# Altium footprint library MATCN.PcbLib: 32 footprints (part 2 of 2)
Each footprint in its own frame and in the unit in brackets; x right, y up, seen from the top. Pads: shape width x height; smd on the part's side, far side on the other; paste and mask are expansions set on the pad; w line width, h text height; cw(c..) or ccw(c..) is an arc to the next point about the centre after c.
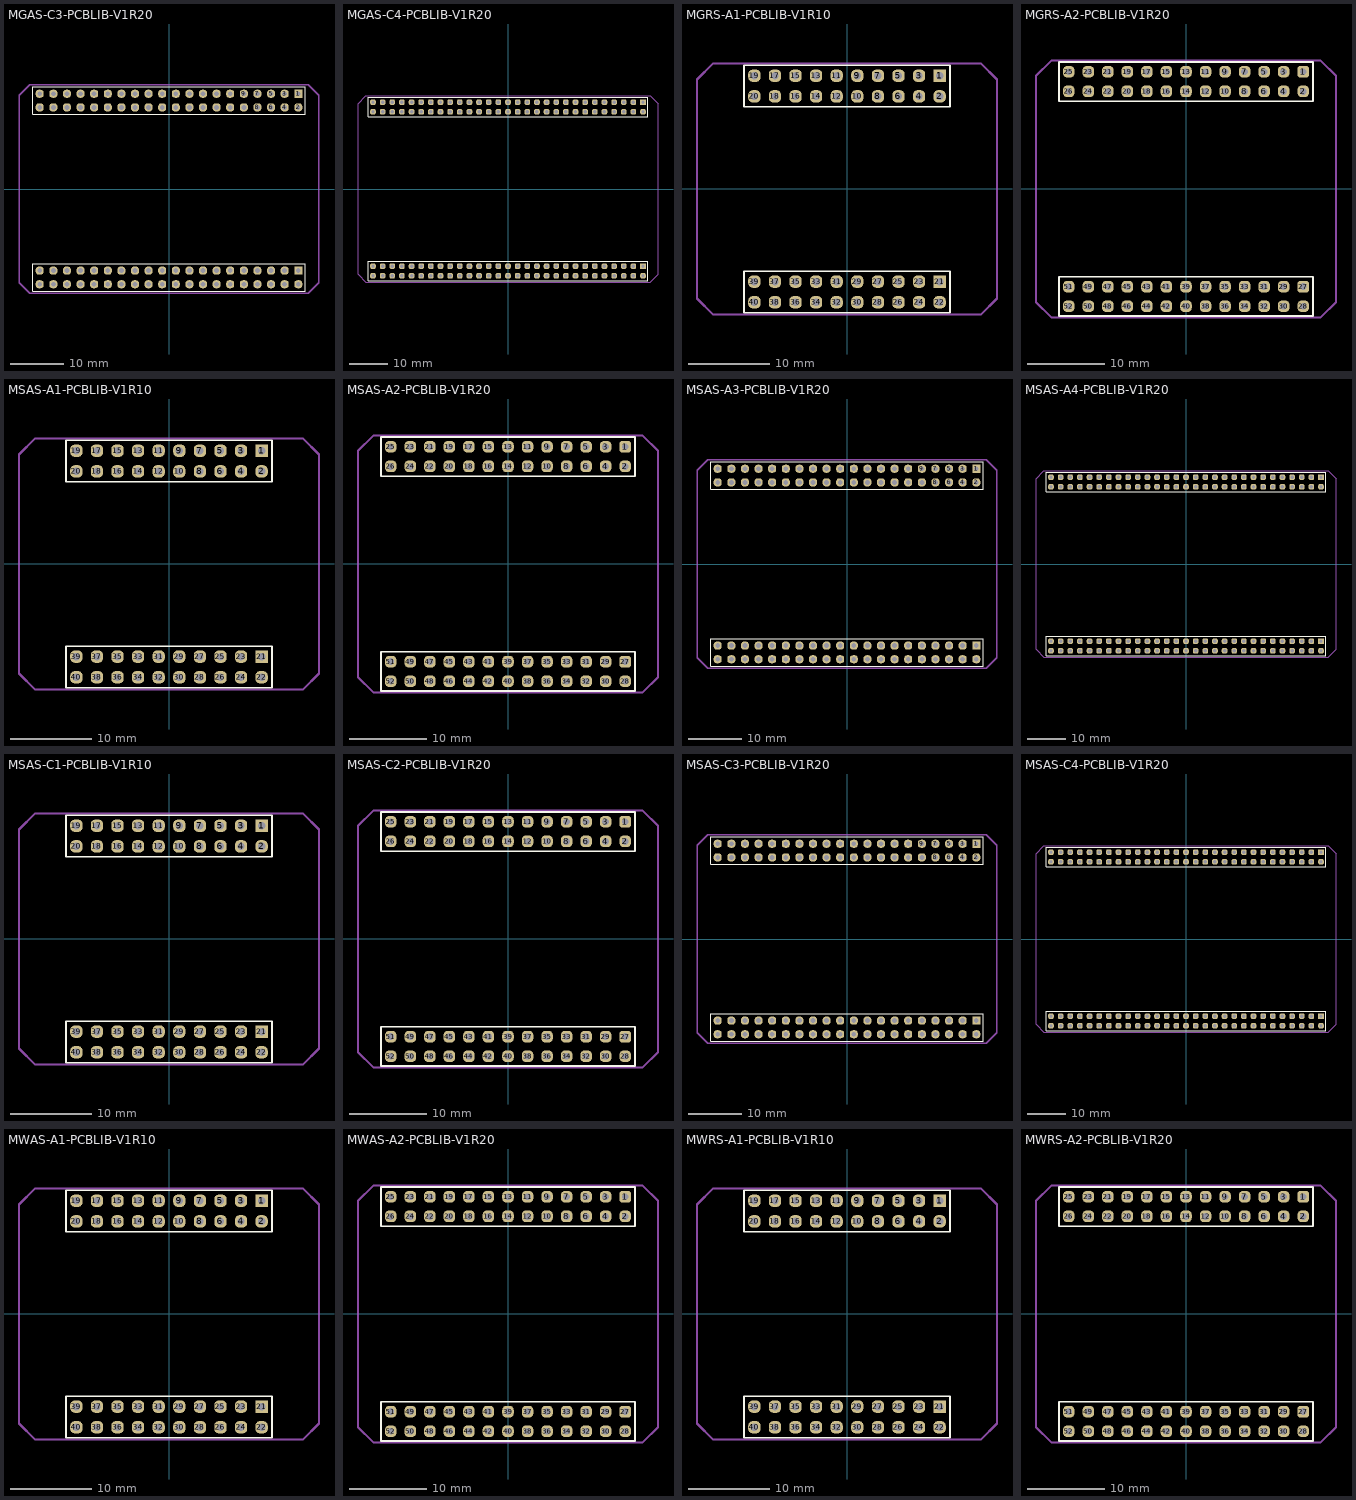
[diagram p1: the footprints below, top view; thin cyan lines are the x and y axes]

## MGAS-C3-PCBLIB-V1R20 [mm]
pads (80):
  rect 1.5x1.5 hole 0.9: 1(24.13,17.78) 41(24.13,-15.24)
  rrect80% 1.5x1.5 hole 0.9: 2(24.13,15.24) 3(21.59,17.78) 4(21.59,15.24) 5(19.05,17.78) 6(19.05,15.24) 7(16.51,17.78) 8(16.51,15.24) 9(13.97,17.78) 10(13.97,15.24) 11(11.43,17.78) 12(11.43,15.24) 13(8.89,17.78) 14(8.89,15.24) 15(6.35,17.78) 16(6.35,15.24) 17(3.81,17.78) 18(3.81,15.24) 19(1.27,17.78) 20(1.27,15.24) 21(-1.27,17.78) 22(-1.27,15.24) 23(-3.81,17.78) 24(-3.81,15.24) 25(-6.35,17.78) 26(-6.35,15.24) 27(-8.89,17.78) 28(-8.89,15.24) 29(-11.43,17.78) 30(-11.43,15.24) 31(-13.97,17.78) 32(-13.97,15.24) 33(-16.51,17.78) 34(-16.51,15.24) 35(-19.05,17.78) 36(-19.05,15.24) 37(-21.59,17.78) 38(-21.59,15.24) 39(-24.13,17.78) 40(-24.13,15.24) 42(24.13,-17.78) 43(21.59,-15.24) 44(21.59,-17.78) 45(19.05,-15.24) 46(19.05,-17.78) 47(16.51,-15.24) 48(16.51,-17.78) 49(13.97,-15.24) 50(13.97,-17.78) 51(11.43,-15.24) 52(11.43,-17.78) 53(8.89,-15.24) 54(8.89,-17.78) 55(6.35,-15.24) 56(6.35,-17.78) 57(3.81,-15.24) 58(3.81,-17.78) 59(1.27,-15.24) 60(1.27,-17.78) 61(-1.27,-15.24) 62(-1.27,-17.78) 63(-3.81,-15.24) 64(-3.81,-17.78) 65(-6.35,-15.24) 66(-6.35,-17.78) 67(-8.89,-15.24) 68(-8.89,-17.78) 69(-11.43,-15.24) 70(-11.43,-17.78) 71(-13.97,-15.24) 72(-13.97,-17.78) 73(-16.51,-15.24) 74(-16.51,-17.78) 75(-19.05,-15.24) 76(-19.05,-17.78) 77(-21.59,-15.24) 78(-21.59,-17.78) 79(-24.13,-15.24) 80(-24.13,-17.78)
Top Overlay:
  lines w0.2: -25.4,-19.05 25.4,-19.05 25.4,-13.97 -25.4,-13.97 -25.4,-19.05 ; -25.4,13.97 25.4,13.97 25.4,19.05 -25.4,19.05 -25.4,13.97
Mechanical 1:
  lines w0.254: -28,-17.5 -28,17.5 -26,19.5 26,19.5 28,17.5 28,-17.5 26,-19.5 -26,-19.5 -28,-17.5

## MGAS-C4-PCBLIB-V1R20 [mm]
pads (116):
  rect 1.5x1.5 hole 0.9: 1(35.56,22.86) 59(35.56,-20.32)
  rrect70% 1.5x1.5 hole 0.9: 2(35.56,20.32) 3(33.02,22.86) 4(33.02,20.32) 5(30.48,22.86) 6(30.48,20.32) 7(27.94,22.86) 8(27.94,20.32) 9(25.4,22.86) 10(25.4,20.32) 11(22.86,22.86) 12(22.86,20.32) 13(20.32,22.86) 14(20.32,20.32) 15(17.78,22.86) 16(17.78,20.32) 17(15.24,22.86) 18(15.24,20.32) 19(12.7,22.86) 20(12.7,20.32) 21(10.16,22.86) 22(10.16,20.32) 23(7.62,22.86) 24(7.62,20.32) 25(5.08,22.86) 26(5.08,20.32) 27(2.54,22.86) 28(2.54,20.32) 29(0,22.86) 30(0,20.32) 31(-2.54,22.86) 32(-2.54,20.32) 33(-5.08,22.86) 34(-5.08,20.32) 35(-7.62,22.86) 36(-7.62,20.32) 37(-10.16,22.86) 38(-10.16,20.32) 39(-12.7,22.86) 40(-12.7,20.32) 41(-15.24,22.86) 42(-15.24,20.32) 43(-17.78,22.86) 44(-17.78,20.32) 45(-20.32,22.86) 46(-20.32,20.32) 47(-22.86,22.86) 48(-22.86,20.32) 49(-25.4,22.86) 50(-25.4,20.32) 51(-27.94,22.86) 52(-27.94,20.32) 53(-30.48,22.86) 54(-30.48,20.32) 55(-33.02,22.86) 56(-33.02,20.32) 57(-35.56,22.86) 58(-35.56,20.32) 60(35.56,-22.86) 61(33.02,-20.32) 62(33.02,-22.86) 63(30.48,-20.32) 64(30.48,-22.86) 65(27.94,-20.32) 66(27.94,-22.86) 67(25.4,-20.32) 68(25.4,-22.86) 69(22.86,-20.32) 70(22.86,-22.86) 71(20.32,-20.32) 72(20.32,-22.86) 73(17.78,-20.32) 74(17.78,-22.86) 75(15.24,-20.32) 76(15.24,-22.86) 77(12.7,-20.32) 78(12.7,-22.86) 79(10.16,-20.32) 80(10.16,-22.86) 81(7.62,-20.32) 82(7.62,-22.86) 83(5.08,-20.32) 84(5.08,-22.86) 85(2.54,-20.32) 86(2.54,-22.86) 87(0,-20.32) 88(0,-22.86) 89(-2.54,-20.32) 90(-2.54,-22.86) 91(-5.08,-20.32) 92(-5.08,-22.86) 93(-7.62,-20.32) 94(-7.62,-22.86) 95(-10.16,-20.32) 96(-10.16,-22.86) 97(-12.7,-20.32) 98(-12.7,-22.86) 99(-15.24,-20.32) 100(-15.24,-22.86) 101(-17.78,-20.32) 102(-17.78,-22.86) 103(-20.32,-20.32) 104(-20.32,-22.86) 105(-22.86,-20.32) 106(-22.86,-22.86) 107(-25.4,-20.32) 108(-25.4,-22.86) 109(-27.94,-20.32) 110(-27.94,-22.86) 111(-30.48,-20.32) 112(-30.48,-22.86) 113(-33.02,-20.32) 114(-33.02,-22.86) 115(-35.56,-20.32) 116(-35.56,-22.86)
Top Overlay:
  lines w0.2: -36.83,-24.13 -36.83,-19.05 36.83,-19.05 36.83,-24.13 -36.83,-24.13 ; -36.83,19.05 -36.83,24.13 36.83,24.13 36.83,19.05 -36.83,19.05
Mechanical 1:
  lines w0.254: -39.5,-22.5 -37.5,-24.5 37.5,-24.5 39.5,-22.5 39.5,22.5 37.5,24.5 -37.5,24.5 -39.5,22.5 -39.5,-22.5

## MGRS-A1-PCBLIB-V1R10 [mm]
pads (40):
  rect 1.5x1.5 hole 0.9: 1(11.43,13.97) 21(11.43,-11.43)
  rrect70% 1.5x1.5 hole 0.9: 2(11.43,11.43) 3(8.89,13.97) 4(8.89,11.43) 5(6.35,13.97) 6(6.35,11.43) 7(3.81,13.97) 8(3.81,11.43) 9(1.27,13.97) 10(1.27,11.43) 11(-1.27,13.97) 12(-1.27,11.43) 13(-3.81,13.97) 14(-3.81,11.43) 15(-6.35,13.97) 16(-6.35,11.43) 17(-8.89,13.97) 18(-8.89,11.43) 19(-11.43,13.97) 20(-11.43,11.43) 22(11.43,-13.97) 23(8.89,-11.43) 24(8.89,-13.97) 25(6.35,-11.43) 26(6.35,-13.97) 27(3.81,-11.43) 28(3.81,-13.97) 29(1.27,-11.43) 30(1.27,-13.97) 31(-1.27,-11.43) 32(-1.27,-13.97) 33(-3.81,-11.43) 34(-3.81,-13.97) 35(-6.35,-11.43) 36(-6.35,-13.97) 37(-8.89,-11.43) 38(-8.89,-13.97) 39(-11.43,-11.43) 40(-11.43,-13.97)
Top Overlay:
  lines w0.2: -12.7,-15.24 -12.7,-10.16 12.7,-10.16 12.7,-15.24 -12.7,-15.24 ; -12.7,10.16 -12.7,15.24 12.7,15.24 12.7,10.16 -12.7,10.16
Mechanical 1:
  lines w0.254: -18.5,-13.5 -16.5,-15.5 16.5,-15.5 18.5,-13.5 18.5,13.5 16.5,15.5 -16.5,15.5 -18.5,13.5 -18.5,-13.5
3D body: height 8.6, standoff -3, extent -12.7,10.16 12.7,15.24
3D body: height 8.6, standoff -3, extent -12.7,-15.24 12.7,-10.16

## MGRS-A2-PCBLIB-V1R20 [mm]
pads (52):
  rrect50% 1.5x1.5 hole 0.9: 1(15.24,15.24) 27(15.24,-12.7)
  rrect70% 1.5x1.5 hole 0.9: 2(15.24,12.7) 3(12.7,15.24) 4(12.7,12.7) 5(10.16,15.24) 6(10.16,12.7) 7(7.62,15.24) 8(7.62,12.7) 9(5.08,15.24) 10(5.08,12.7) 11(2.54,15.24) 12(2.54,12.7) 13(0,15.24) 14(0,12.7) 15(-2.54,15.24) 16(-2.54,12.7) 17(-5.08,15.24) 18(-5.08,12.7) 19(-7.62,15.24) 20(-7.62,12.7) 21(-10.16,15.24) 22(-10.16,12.7) 23(-12.7,15.24) 24(-12.7,12.7) 25(-15.24,15.24) 26(-15.24,12.7) 28(15.24,-15.24) 29(12.7,-12.7) 30(12.7,-15.24) 31(10.16,-12.7) 32(10.16,-15.24) 33(7.62,-12.7) 34(7.62,-15.24) 35(5.08,-12.7) 36(5.08,-15.24) 37(2.54,-12.7) 38(2.54,-15.24) 39(0,-12.7) 40(0,-15.24) 41(-2.54,-12.7) 42(-2.54,-15.24) 43(-5.08,-12.7) 44(-5.08,-15.24) 45(-7.62,-12.7) 46(-7.62,-15.24) 47(-10.16,-12.7) 48(-10.16,-15.24) 49(-12.7,-12.7) 50(-12.7,-15.24) 51(-15.24,-12.7) 52(-15.24,-15.24)
Top Overlay:
  lines w0.2: -16.51,-16.51 -16.51,-11.43 16.51,-11.43 16.51,-16.51 -16.51,-16.51 ; -16.51,11.43 -16.51,16.51 16.51,16.51 16.51,11.43 -16.51,11.43
Mechanical 1:
  lines w0.254: -19.5,-14.7 -19.5,14.7 -17.5,16.7 17.5,16.7 19.5,14.7 19.5,-14.7 17.5,-16.7 -17.5,-16.7 -19.5,-14.7
3D body: height 8.6, standoff -3, extent -12.8,10.26 12.6,15.34
3D body: height 8.6, standoff -3, extent -12.8,-15.14 12.6,-10.06
3D body: height 8.6, standoff -3, extent -16.51,-16.51 16.51,-11.43
3D body: height 8.6, standoff -3, extent -16.51,11.43 16.51,16.51

## MSAS-A1-PCBLIB-V1R10 [mm]
pads (40):
  rect 1.5x1.5 hole 0.9: 1(11.43,13.97) 21(11.43,-11.43)
  rrect70% 1.5x1.5 hole 0.9: 2(11.43,11.43) 3(8.89,13.97) 4(8.89,11.43) 5(6.35,13.97) 6(6.35,11.43) 7(3.81,13.97) 8(3.81,11.43) 9(1.27,13.97) 10(1.27,11.43) 11(-1.27,13.97) 12(-1.27,11.43) 13(-3.81,13.97) 14(-3.81,11.43) 15(-6.35,13.97) 16(-6.35,11.43) 17(-8.89,13.97) 18(-8.89,11.43) 19(-11.43,13.97) 20(-11.43,11.43) 22(11.43,-13.97) 23(8.89,-11.43) 24(8.89,-13.97) 25(6.35,-11.43) 26(6.35,-13.97) 27(3.81,-11.43) 28(3.81,-13.97) 29(1.27,-11.43) 30(1.27,-13.97) 31(-1.27,-11.43) 32(-1.27,-13.97) 33(-3.81,-11.43) 34(-3.81,-13.97) 35(-6.35,-11.43) 36(-6.35,-13.97) 37(-8.89,-11.43) 38(-8.89,-13.97) 39(-11.43,-11.43) 40(-11.43,-13.97)
Top Overlay:
  lines w0.2: -12.7,-15.24 -12.7,-10.16 12.7,-10.16 12.7,-15.24 -12.7,-15.24 ; -12.7,10.16 -12.7,15.24 12.7,15.24 12.7,10.16 -12.7,10.16
Mechanical 1:
  lines w0.254: -18.5,-13.5 -16.5,-15.5 16.5,-15.5 18.5,-13.5 18.5,13.5 16.5,15.5 -16.5,15.5 -18.5,13.5 -18.5,-13.5
3D body: height 8.6, standoff -3, extent -12.7,10.16 12.7,15.24
3D body: height 8.6, standoff -3, extent -12.7,-15.24 12.7,-10.16

## MSAS-A2-PCBLIB-V1R20 [mm]
pads (52):
  rrect50% 1.5x1.5 hole 0.9: 1(15.24,15.24) 27(15.24,-12.7)
  rrect70% 1.5x1.5 hole 0.9: 2(15.24,12.7) 3(12.7,15.24) 4(12.7,12.7) 5(10.16,15.24) 6(10.16,12.7) 7(7.62,15.24) 8(7.62,12.7) 9(5.08,15.24) 10(5.08,12.7) 11(2.54,15.24) 12(2.54,12.7) 13(0,15.24) 14(0,12.7) 15(-2.54,15.24) 16(-2.54,12.7) 17(-5.08,15.24) 18(-5.08,12.7) 19(-7.62,15.24) 20(-7.62,12.7) 21(-10.16,15.24) 22(-10.16,12.7) 23(-12.7,15.24) 24(-12.7,12.7) 25(-15.24,15.24) 26(-15.24,12.7) 28(15.24,-15.24) 29(12.7,-12.7) 30(12.7,-15.24) 31(10.16,-12.7) 32(10.16,-15.24) 33(7.62,-12.7) 34(7.62,-15.24) 35(5.08,-12.7) 36(5.08,-15.24) 37(2.54,-12.7) 38(2.54,-15.24) 39(0,-12.7) 40(0,-15.24) 41(-2.54,-12.7) 42(-2.54,-15.24) 43(-5.08,-12.7) 44(-5.08,-15.24) 45(-7.62,-12.7) 46(-7.62,-15.24) 47(-10.16,-12.7) 48(-10.16,-15.24) 49(-12.7,-12.7) 50(-12.7,-15.24) 51(-15.24,-12.7) 52(-15.24,-15.24)
Top Overlay:
  lines w0.2: -16.51,-16.51 -16.51,-11.43 16.51,-11.43 16.51,-16.51 -16.51,-16.51 ; -16.51,11.43 -16.51,16.51 16.51,16.51 16.51,11.43 -16.51,11.43
Mechanical 1:
  lines w0.254: -19.5,-14.7 -19.5,14.7 -17.5,16.7 17.5,16.7 19.5,14.7 19.5,-14.7 17.5,-16.7 -17.5,-16.7 -19.5,-14.7
3D body: height 8.6, standoff -3, extent -12.8,10.26 12.6,15.34
3D body: height 8.6, standoff -3, extent -12.8,-15.14 12.6,-10.06
3D body: height 8.6, standoff -3, extent -16.51,-16.51 16.51,-11.43
3D body: height 8.6, standoff -3, extent -16.51,11.43 16.51,16.51

## MSAS-A3-PCBLIB-V1R20 [mm]
pads (80):
  rect 1.5x1.5 hole 0.9: 1(24.13,17.78) 41(24.13,-15.24)
  rrect80% 1.5x1.5 hole 0.9: 2(24.13,15.24) 3(21.59,17.78) 4(21.59,15.24) 5(19.05,17.78) 6(19.05,15.24) 7(16.51,17.78) 8(16.51,15.24) 9(13.97,17.78) 10(13.97,15.24) 11(11.43,17.78) 12(11.43,15.24) 13(8.89,17.78) 14(8.89,15.24) 15(6.35,17.78) 16(6.35,15.24) 17(3.81,17.78) 18(3.81,15.24) 19(1.27,17.78) 20(1.27,15.24) 21(-1.27,17.78) 22(-1.27,15.24) 23(-3.81,17.78) 24(-3.81,15.24) 25(-6.35,17.78) 26(-6.35,15.24) 27(-8.89,17.78) 28(-8.89,15.24) 29(-11.43,17.78) 30(-11.43,15.24) 31(-13.97,17.78) 32(-13.97,15.24) 33(-16.51,17.78) 34(-16.51,15.24) 35(-19.05,17.78) 36(-19.05,15.24) 37(-21.59,17.78) 38(-21.59,15.24) 39(-24.13,17.78) 40(-24.13,15.24) 42(24.13,-17.78) 43(21.59,-15.24) 44(21.59,-17.78) 45(19.05,-15.24) 46(19.05,-17.78) 47(16.51,-15.24) 48(16.51,-17.78) 49(13.97,-15.24) 50(13.97,-17.78) 51(11.43,-15.24) 52(11.43,-17.78) 53(8.89,-15.24) 54(8.89,-17.78) 55(6.35,-15.24) 56(6.35,-17.78) 57(3.81,-15.24) 58(3.81,-17.78) 59(1.27,-15.24) 60(1.27,-17.78) 61(-1.27,-15.24) 62(-1.27,-17.78) 63(-3.81,-15.24) 64(-3.81,-17.78) 65(-6.35,-15.24) 66(-6.35,-17.78) 67(-8.89,-15.24) 68(-8.89,-17.78) 69(-11.43,-15.24) 70(-11.43,-17.78) 71(-13.97,-15.24) 72(-13.97,-17.78) 73(-16.51,-15.24) 74(-16.51,-17.78) 75(-19.05,-15.24) 76(-19.05,-17.78) 77(-21.59,-15.24) 78(-21.59,-17.78) 79(-24.13,-15.24) 80(-24.13,-17.78)
Top Overlay:
  lines w0.2: -25.4,-19.05 25.4,-19.05 25.4,-13.97 -25.4,-13.97 -25.4,-19.05 ; -25.4,13.97 25.4,13.97 25.4,19.05 -25.4,19.05 -25.4,13.97
Mechanical 1:
  lines w0.254: -28,-17.5 -28,17.5 -26,19.5 26,19.5 28,17.5 28,-17.5 26,-19.5 -26,-19.5 -28,-17.5

## MSAS-A4-PCBLIB-V1R20 [mm]
pads (116):
  rect 1.5x1.5 hole 0.9: 1(35.56,22.86) 59(35.56,-20.32)
  rrect70% 1.5x1.5 hole 0.9: 2(35.56,20.32) 3(33.02,22.86) 4(33.02,20.32) 5(30.48,22.86) 6(30.48,20.32) 7(27.94,22.86) 8(27.94,20.32) 9(25.4,22.86) 10(25.4,20.32) 11(22.86,22.86) 12(22.86,20.32) 13(20.32,22.86) 14(20.32,20.32) 15(17.78,22.86) 16(17.78,20.32) 17(15.24,22.86) 18(15.24,20.32) 19(12.7,22.86) 20(12.7,20.32) 21(10.16,22.86) 22(10.16,20.32) 23(7.62,22.86) 24(7.62,20.32) 25(5.08,22.86) 26(5.08,20.32) 27(2.54,22.86) 28(2.54,20.32) 29(0,22.86) 30(0,20.32) 31(-2.54,22.86) 32(-2.54,20.32) 33(-5.08,22.86) 34(-5.08,20.32) 35(-7.62,22.86) 36(-7.62,20.32) 37(-10.16,22.86) 38(-10.16,20.32) 39(-12.7,22.86) 40(-12.7,20.32) 41(-15.24,22.86) 42(-15.24,20.32) 43(-17.78,22.86) 44(-17.78,20.32) 45(-20.32,22.86) 46(-20.32,20.32) 47(-22.86,22.86) 48(-22.86,20.32) 49(-25.4,22.86) 50(-25.4,20.32) 51(-27.94,22.86) 52(-27.94,20.32) 53(-30.48,22.86) 54(-30.48,20.32) 55(-33.02,22.86) 56(-33.02,20.32) 57(-35.56,22.86) 58(-35.56,20.32) 60(35.56,-22.86) 61(33.02,-20.32) 62(33.02,-22.86) 63(30.48,-20.32) 64(30.48,-22.86) 65(27.94,-20.32) 66(27.94,-22.86) 67(25.4,-20.32) 68(25.4,-22.86) 69(22.86,-20.32) 70(22.86,-22.86) 71(20.32,-20.32) 72(20.32,-22.86) 73(17.78,-20.32) 74(17.78,-22.86) 75(15.24,-20.32) 76(15.24,-22.86) 77(12.7,-20.32) 78(12.7,-22.86) 79(10.16,-20.32) 80(10.16,-22.86) 81(7.62,-20.32) 82(7.62,-22.86) 83(5.08,-20.32) 84(5.08,-22.86) 85(2.54,-20.32) 86(2.54,-22.86) 87(0,-20.32) 88(0,-22.86) 89(-2.54,-20.32) 90(-2.54,-22.86) 91(-5.08,-20.32) 92(-5.08,-22.86) 93(-7.62,-20.32) 94(-7.62,-22.86) 95(-10.16,-20.32) 96(-10.16,-22.86) 97(-12.7,-20.32) 98(-12.7,-22.86) 99(-15.24,-20.32) 100(-15.24,-22.86) 101(-17.78,-20.32) 102(-17.78,-22.86) 103(-20.32,-20.32) 104(-20.32,-22.86) 105(-22.86,-20.32) 106(-22.86,-22.86) 107(-25.4,-20.32) 108(-25.4,-22.86) 109(-27.94,-20.32) 110(-27.94,-22.86) 111(-30.48,-20.32) 112(-30.48,-22.86) 113(-33.02,-20.32) 114(-33.02,-22.86) 115(-35.56,-20.32) 116(-35.56,-22.86)
Top Overlay:
  lines w0.2: -36.83,-24.13 -36.83,-19.05 36.83,-19.05 36.83,-24.13 -36.83,-24.13 ; -36.83,19.05 -36.83,24.13 36.83,24.13 36.83,19.05 -36.83,19.05
Mechanical 1:
  lines w0.254: -39.5,-22.5 -37.5,-24.5 37.5,-24.5 39.5,-22.5 39.5,22.5 37.5,24.5 -37.5,24.5 -39.5,22.5 -39.5,-22.5

## MSAS-C1-PCBLIB-V1R10 [mm]
pads (40):
  rect 1.5x1.5 hole 0.9: 1(11.43,13.97) 21(11.43,-11.43)
  rrect70% 1.5x1.5 hole 0.9: 2(11.43,11.43) 3(8.89,13.97) 4(8.89,11.43) 5(6.35,13.97) 6(6.35,11.43) 7(3.81,13.97) 8(3.81,11.43) 9(1.27,13.97) 10(1.27,11.43) 11(-1.27,13.97) 12(-1.27,11.43) 13(-3.81,13.97) 14(-3.81,11.43) 15(-6.35,13.97) 16(-6.35,11.43) 17(-8.89,13.97) 18(-8.89,11.43) 19(-11.43,13.97) 20(-11.43,11.43) 22(11.43,-13.97) 23(8.89,-11.43) 24(8.89,-13.97) 25(6.35,-11.43) 26(6.35,-13.97) 27(3.81,-11.43) 28(3.81,-13.97) 29(1.27,-11.43) 30(1.27,-13.97) 31(-1.27,-11.43) 32(-1.27,-13.97) 33(-3.81,-11.43) 34(-3.81,-13.97) 35(-6.35,-11.43) 36(-6.35,-13.97) 37(-8.89,-11.43) 38(-8.89,-13.97) 39(-11.43,-11.43) 40(-11.43,-13.97)
Top Overlay:
  lines w0.2: -12.7,-15.24 -12.7,-10.16 12.7,-10.16 12.7,-15.24 -12.7,-15.24 ; -12.7,10.16 -12.7,15.24 12.7,15.24 12.7,10.16 -12.7,10.16
Mechanical 1:
  lines w0.254: -18.5,-13.5 -16.5,-15.5 16.5,-15.5 18.5,-13.5 18.5,13.5 16.5,15.5 -16.5,15.5 -18.5,13.5 -18.5,-13.5
3D body: height 8.6, standoff -3, extent -12.7,10.16 12.7,15.24
3D body: height 8.6, standoff -3, extent -12.7,-15.24 12.7,-10.16

## MSAS-C2-PCBLIB-V1R20 [mm]
pads (52):
  rrect50% 1.5x1.5 hole 0.9: 1(15.24,15.24) 27(15.24,-12.7)
  rrect70% 1.5x1.5 hole 0.9: 2(15.24,12.7) 3(12.7,15.24) 4(12.7,12.7) 5(10.16,15.24) 6(10.16,12.7) 7(7.62,15.24) 8(7.62,12.7) 9(5.08,15.24) 10(5.08,12.7) 11(2.54,15.24) 12(2.54,12.7) 13(0,15.24) 14(0,12.7) 15(-2.54,15.24) 16(-2.54,12.7) 17(-5.08,15.24) 18(-5.08,12.7) 19(-7.62,15.24) 20(-7.62,12.7) 21(-10.16,15.24) 22(-10.16,12.7) 23(-12.7,15.24) 24(-12.7,12.7) 25(-15.24,15.24) 26(-15.24,12.7) 28(15.24,-15.24) 29(12.7,-12.7) 30(12.7,-15.24) 31(10.16,-12.7) 32(10.16,-15.24) 33(7.62,-12.7) 34(7.62,-15.24) 35(5.08,-12.7) 36(5.08,-15.24) 37(2.54,-12.7) 38(2.54,-15.24) 39(0,-12.7) 40(0,-15.24) 41(-2.54,-12.7) 42(-2.54,-15.24) 43(-5.08,-12.7) 44(-5.08,-15.24) 45(-7.62,-12.7) 46(-7.62,-15.24) 47(-10.16,-12.7) 48(-10.16,-15.24) 49(-12.7,-12.7) 50(-12.7,-15.24) 51(-15.24,-12.7) 52(-15.24,-15.24)
Top Overlay:
  lines w0.2: -16.51,-16.51 -16.51,-11.43 16.51,-11.43 16.51,-16.51 -16.51,-16.51 ; -16.51,11.43 -16.51,16.51 16.51,16.51 16.51,11.43 -16.51,11.43
Mechanical 1:
  lines w0.254: -19.5,-14.7 -19.5,14.7 -17.5,16.7 17.5,16.7 19.5,14.7 19.5,-14.7 17.5,-16.7 -17.5,-16.7 -19.5,-14.7
3D body: height 8.6, standoff -3, extent -12.8,10.26 12.6,15.34
3D body: height 8.6, standoff -3, extent -12.8,-15.14 12.6,-10.06
3D body: height 8.6, standoff -3, extent -16.51,-16.51 16.51,-11.43
3D body: height 8.6, standoff -3, extent -16.51,11.43 16.51,16.51

## MSAS-C3-PCBLIB-V1R20 [mm]
pads (80):
  rect 1.5x1.5 hole 0.9: 1(24.13,17.78) 41(24.13,-15.24)
  rrect80% 1.5x1.5 hole 0.9: 2(24.13,15.24) 3(21.59,17.78) 4(21.59,15.24) 5(19.05,17.78) 6(19.05,15.24) 7(16.51,17.78) 8(16.51,15.24) 9(13.97,17.78) 10(13.97,15.24) 11(11.43,17.78) 12(11.43,15.24) 13(8.89,17.78) 14(8.89,15.24) 15(6.35,17.78) 16(6.35,15.24) 17(3.81,17.78) 18(3.81,15.24) 19(1.27,17.78) 20(1.27,15.24) 21(-1.27,17.78) 22(-1.27,15.24) 23(-3.81,17.78) 24(-3.81,15.24) 25(-6.35,17.78) 26(-6.35,15.24) 27(-8.89,17.78) 28(-8.89,15.24) 29(-11.43,17.78) 30(-11.43,15.24) 31(-13.97,17.78) 32(-13.97,15.24) 33(-16.51,17.78) 34(-16.51,15.24) 35(-19.05,17.78) 36(-19.05,15.24) 37(-21.59,17.78) 38(-21.59,15.24) 39(-24.13,17.78) 40(-24.13,15.24) 42(24.13,-17.78) 43(21.59,-15.24) 44(21.59,-17.78) 45(19.05,-15.24) 46(19.05,-17.78) 47(16.51,-15.24) 48(16.51,-17.78) 49(13.97,-15.24) 50(13.97,-17.78) 51(11.43,-15.24) 52(11.43,-17.78) 53(8.89,-15.24) 54(8.89,-17.78) 55(6.35,-15.24) 56(6.35,-17.78) 57(3.81,-15.24) 58(3.81,-17.78) 59(1.27,-15.24) 60(1.27,-17.78) 61(-1.27,-15.24) 62(-1.27,-17.78) 63(-3.81,-15.24) 64(-3.81,-17.78) 65(-6.35,-15.24) 66(-6.35,-17.78) 67(-8.89,-15.24) 68(-8.89,-17.78) 69(-11.43,-15.24) 70(-11.43,-17.78) 71(-13.97,-15.24) 72(-13.97,-17.78) 73(-16.51,-15.24) 74(-16.51,-17.78) 75(-19.05,-15.24) 76(-19.05,-17.78) 77(-21.59,-15.24) 78(-21.59,-17.78) 79(-24.13,-15.24) 80(-24.13,-17.78)
Top Overlay:
  lines w0.2: -25.4,-19.05 -25.4,-13.97 25.4,-13.97 25.4,-19.05 -25.4,-19.05 ; -25.4,13.97 -25.4,19.05 25.4,19.05 25.4,13.97 -25.4,13.97
Mechanical 1:
  lines w0.254: -28,-17.5 -26,-19.5 26,-19.5 28,-17.5 28,17.5 26,19.5 -26,19.5 -28,17.5 -28,-17.5

## MSAS-C4-PCBLIB-V1R20 [mm]
pads (116):
  rect 1.5x1.5 hole 0.9: 1(35.56,22.86) 59(35.56,-20.32)
  rrect70% 1.5x1.5 hole 0.9: 2(35.56,20.32) 3(33.02,22.86) 4(33.02,20.32) 5(30.48,22.86) 6(30.48,20.32) 7(27.94,22.86) 8(27.94,20.32) 9(25.4,22.86) 10(25.4,20.32) 11(22.86,22.86) 12(22.86,20.32) 13(20.32,22.86) 14(20.32,20.32) 15(17.78,22.86) 16(17.78,20.32) 17(15.24,22.86) 18(15.24,20.32) 19(12.7,22.86) 20(12.7,20.32) 21(10.16,22.86) 22(10.16,20.32) 23(7.62,22.86) 24(7.62,20.32) 25(5.08,22.86) 26(5.08,20.32) 27(2.54,22.86) 28(2.54,20.32) 29(0,22.86) 30(0,20.32) 31(-2.54,22.86) 32(-2.54,20.32) 33(-5.08,22.86) 34(-5.08,20.32) 35(-7.62,22.86) 36(-7.62,20.32) 37(-10.16,22.86) 38(-10.16,20.32) 39(-12.7,22.86) 40(-12.7,20.32) 41(-15.24,22.86) 42(-15.24,20.32) 43(-17.78,22.86) 44(-17.78,20.32) 45(-20.32,22.86) 46(-20.32,20.32) 47(-22.86,22.86) 48(-22.86,20.32) 49(-25.4,22.86) 50(-25.4,20.32) 51(-27.94,22.86) 52(-27.94,20.32) 53(-30.48,22.86) 54(-30.48,20.32) 55(-33.02,22.86) 56(-33.02,20.32) 57(-35.56,22.86) 58(-35.56,20.32) 60(35.56,-22.86) 61(33.02,-20.32) 62(33.02,-22.86) 63(30.48,-20.32) 64(30.48,-22.86) 65(27.94,-20.32) 66(27.94,-22.86) 67(25.4,-20.32) 68(25.4,-22.86) 69(22.86,-20.32) 70(22.86,-22.86) 71(20.32,-20.32) 72(20.32,-22.86) 73(17.78,-20.32) 74(17.78,-22.86) 75(15.24,-20.32) 76(15.24,-22.86) 77(12.7,-20.32) 78(12.7,-22.86) 79(10.16,-20.32) 80(10.16,-22.86) 81(7.62,-20.32) 82(7.62,-22.86) 83(5.08,-20.32) 84(5.08,-22.86) 85(2.54,-20.32) 86(2.54,-22.86) 87(0,-20.32) 88(0,-22.86) 89(-2.54,-20.32) 90(-2.54,-22.86) 91(-5.08,-20.32) 92(-5.08,-22.86) 93(-7.62,-20.32) 94(-7.62,-22.86) 95(-10.16,-20.32) 96(-10.16,-22.86) 97(-12.7,-20.32) 98(-12.7,-22.86) 99(-15.24,-20.32) 100(-15.24,-22.86) 101(-17.78,-20.32) 102(-17.78,-22.86) 103(-20.32,-20.32) 104(-20.32,-22.86) 105(-22.86,-20.32) 106(-22.86,-22.86) 107(-25.4,-20.32) 108(-25.4,-22.86) 109(-27.94,-20.32) 110(-27.94,-22.86) 111(-30.48,-20.32) 112(-30.48,-22.86) 113(-33.02,-20.32) 114(-33.02,-22.86) 115(-35.56,-20.32) 116(-35.56,-22.86)
Top Overlay:
  lines w0.2: -36.83,-24.13 -36.83,-19.05 36.83,-19.05 36.83,-24.13 -36.83,-24.13 ; -36.83,19.05 -36.83,24.13 36.83,24.13 36.83,19.05 -36.83,19.05
Mechanical 1:
  lines w0.254: -39.5,-22.5 -37.5,-24.5 37.5,-24.5 39.5,-22.5 39.5,22.5 37.5,24.5 -37.5,24.5 -39.5,22.5 -39.5,-22.5

## MWAS-A1-PCBLIB-V1R10 [mm]
pads (40):
  rect 1.5x1.5 hole 0.9: 1(11.43,13.97) 21(11.43,-11.43)
  rrect70% 1.5x1.5 hole 0.9: 2(11.43,11.43) 3(8.89,13.97) 4(8.89,11.43) 5(6.35,13.97) 6(6.35,11.43) 7(3.81,13.97) 8(3.81,11.43) 9(1.27,13.97) 10(1.27,11.43) 11(-1.27,13.97) 12(-1.27,11.43) 13(-3.81,13.97) 14(-3.81,11.43) 15(-6.35,13.97) 16(-6.35,11.43) 17(-8.89,13.97) 18(-8.89,11.43) 19(-11.43,13.97) 20(-11.43,11.43) 22(11.43,-13.97) 23(8.89,-11.43) 24(8.89,-13.97) 25(6.35,-11.43) 26(6.35,-13.97) 27(3.81,-11.43) 28(3.81,-13.97) 29(1.27,-11.43) 30(1.27,-13.97) 31(-1.27,-11.43) 32(-1.27,-13.97) 33(-3.81,-11.43) 34(-3.81,-13.97) 35(-6.35,-11.43) 36(-6.35,-13.97) 37(-8.89,-11.43) 38(-8.89,-13.97) 39(-11.43,-11.43) 40(-11.43,-13.97)
Top Overlay:
  lines w0.2: -12.7,-15.24 -12.7,-10.16 12.7,-10.16 12.7,-15.24 -12.7,-15.24 ; -12.7,10.16 -12.7,15.24 12.7,15.24 12.7,10.16 -12.7,10.16
Mechanical 1:
  lines w0.254: -18.5,-13.5 -16.5,-15.5 16.5,-15.5 18.5,-13.5 18.5,13.5 16.5,15.5 -16.5,15.5 -18.5,13.5 -18.5,-13.5
3D body: height 8.6, standoff -3, extent -12.7,10.16 12.7,15.24
3D body: height 8.6, standoff -3, extent -12.7,-15.24 12.7,-10.16

## MWAS-A2-PCBLIB-V1R20 [mm]
pads (52):
  rrect50% 1.5x1.5 hole 0.9: 1(15.24,15.24) 27(15.24,-12.7)
  rrect70% 1.5x1.5 hole 0.9: 2(15.24,12.7) 3(12.7,15.24) 4(12.7,12.7) 5(10.16,15.24) 6(10.16,12.7) 7(7.62,15.24) 8(7.62,12.7) 9(5.08,15.24) 10(5.08,12.7) 11(2.54,15.24) 12(2.54,12.7) 13(0,15.24) 14(0,12.7) 15(-2.54,15.24) 16(-2.54,12.7) 17(-5.08,15.24) 18(-5.08,12.7) 19(-7.62,15.24) 20(-7.62,12.7) 21(-10.16,15.24) 22(-10.16,12.7) 23(-12.7,15.24) 24(-12.7,12.7) 25(-15.24,15.24) 26(-15.24,12.7) 28(15.24,-15.24) 29(12.7,-12.7) 30(12.7,-15.24) 31(10.16,-12.7) 32(10.16,-15.24) 33(7.62,-12.7) 34(7.62,-15.24) 35(5.08,-12.7) 36(5.08,-15.24) 37(2.54,-12.7) 38(2.54,-15.24) 39(0,-12.7) 40(0,-15.24) 41(-2.54,-12.7) 42(-2.54,-15.24) 43(-5.08,-12.7) 44(-5.08,-15.24) 45(-7.62,-12.7) 46(-7.62,-15.24) 47(-10.16,-12.7) 48(-10.16,-15.24) 49(-12.7,-12.7) 50(-12.7,-15.24) 51(-15.24,-12.7) 52(-15.24,-15.24)
Top Overlay:
  lines w0.2: -16.51,-16.51 16.51,-16.51 16.51,-11.43 -16.51,-11.43 -16.51,-16.51 ; -16.51,11.43 16.51,11.43 16.51,16.51 -16.51,16.51 -16.51,11.43
Mechanical 1:
  lines w0.254: -19.5,-14.7 -17.5,-16.7 17.5,-16.7 19.5,-14.7 19.5,14.7 17.5,16.7 -17.5,16.7 -19.5,14.7 -19.5,-14.7
3D body: height 8.6, standoff -3, extent -16.51,11.43 16.51,16.51
3D body: height 8.6, standoff -3, extent -16.51,-16.51 16.51,-11.43
3D body: height 8.6, standoff -3, extent -12.8,-15.14 12.6,-10.06
3D body: height 8.6, standoff -3, extent -12.8,10.26 12.6,15.34

## MWRS-A1-PCBLIB-V1R10 [mm]
pads (40):
  rect 1.5x1.5 hole 0.9: 1(11.43,13.97) 21(11.43,-11.43)
  rrect70% 1.5x1.5 hole 0.9: 2(11.43,11.43) 3(8.89,13.97) 4(8.89,11.43) 5(6.35,13.97) 6(6.35,11.43) 7(3.81,13.97) 8(3.81,11.43) 9(1.27,13.97) 10(1.27,11.43) 11(-1.27,13.97) 12(-1.27,11.43) 13(-3.81,13.97) 14(-3.81,11.43) 15(-6.35,13.97) 16(-6.35,11.43) 17(-8.89,13.97) 18(-8.89,11.43) 19(-11.43,13.97) 20(-11.43,11.43) 22(11.43,-13.97) 23(8.89,-11.43) 24(8.89,-13.97) 25(6.35,-11.43) 26(6.35,-13.97) 27(3.81,-11.43) 28(3.81,-13.97) 29(1.27,-11.43) 30(1.27,-13.97) 31(-1.27,-11.43) 32(-1.27,-13.97) 33(-3.81,-11.43) 34(-3.81,-13.97) 35(-6.35,-11.43) 36(-6.35,-13.97) 37(-8.89,-11.43) 38(-8.89,-13.97) 39(-11.43,-11.43) 40(-11.43,-13.97)
Top Overlay:
  lines w0.2: -12.7,-15.24 -12.7,-10.16 12.7,-10.16 12.7,-15.24 -12.7,-15.24 ; -12.7,10.16 -12.7,15.24 12.7,15.24 12.7,10.16 -12.7,10.16
Mechanical 1:
  lines w0.254: -18.5,-13.5 -16.5,-15.5 16.5,-15.5 18.5,-13.5 18.5,13.5 16.5,15.5 -16.5,15.5 -18.5,13.5 -18.5,-13.5
3D body: height 8.6, standoff -3, extent -12.7,10.16 12.7,15.24
3D body: height 8.6, standoff -3, extent -12.7,-15.24 12.7,-10.16

## MWRS-A2-PCBLIB-V1R20 [mm]
pads (52):
  rrect50% 1.5x1.5 hole 0.9: 1(15.24,15.24) 27(15.24,-12.7)
  rrect70% 1.5x1.5 hole 0.9: 2(15.24,12.7) 3(12.7,15.24) 4(12.7,12.7) 5(10.16,15.24) 6(10.16,12.7) 7(7.62,15.24) 8(7.62,12.7) 9(5.08,15.24) 10(5.08,12.7) 11(2.54,15.24) 12(2.54,12.7) 13(0,15.24) 14(0,12.7) 15(-2.54,15.24) 16(-2.54,12.7) 17(-5.08,15.24) 18(-5.08,12.7) 19(-7.62,15.24) 20(-7.62,12.7) 21(-10.16,15.24) 22(-10.16,12.7) 23(-12.7,15.24) 24(-12.7,12.7) 25(-15.24,15.24) 26(-15.24,12.7) 28(15.24,-15.24) 29(12.7,-12.7) 30(12.7,-15.24) 31(10.16,-12.7) 32(10.16,-15.24) 33(7.62,-12.7) 34(7.62,-15.24) 35(5.08,-12.7) 36(5.08,-15.24) 37(2.54,-12.7) 38(2.54,-15.24) 39(0,-12.7) 40(0,-15.24) 41(-2.54,-12.7) 42(-2.54,-15.24) 43(-5.08,-12.7) 44(-5.08,-15.24) 45(-7.62,-12.7) 46(-7.62,-15.24) 47(-10.16,-12.7) 48(-10.16,-15.24) 49(-12.7,-12.7) 50(-12.7,-15.24) 51(-15.24,-12.7) 52(-15.24,-15.24)
Top Overlay:
  lines w0.2: -16.51,-16.51 -16.51,-11.43 16.51,-11.43 16.51,-16.51 -16.51,-16.51 ; -16.51,11.43 -16.51,16.51 16.51,16.51 16.51,11.43 -16.51,11.43
Mechanical 1:
  lines w0.254: -19.5,-14.7 -19.5,14.7 -17.5,16.7 17.5,16.7 19.5,14.7 19.5,-14.7 17.5,-16.7 -17.5,-16.7 -19.5,-14.7
3D body: height 8.6, standoff -3, extent -12.8,10.26 12.6,15.34
3D body: height 8.6, standoff -3, extent -12.8,-15.14 12.6,-10.06
3D body: height 8.6, standoff -3, extent -16.51,-16.51 16.51,-11.43
3D body: height 8.6, standoff -3, extent -16.51,11.43 16.51,16.51